# Altium integrated library Altium_WR-MM (rev22a).IntLib: 120 symbols (part 2 of 3)
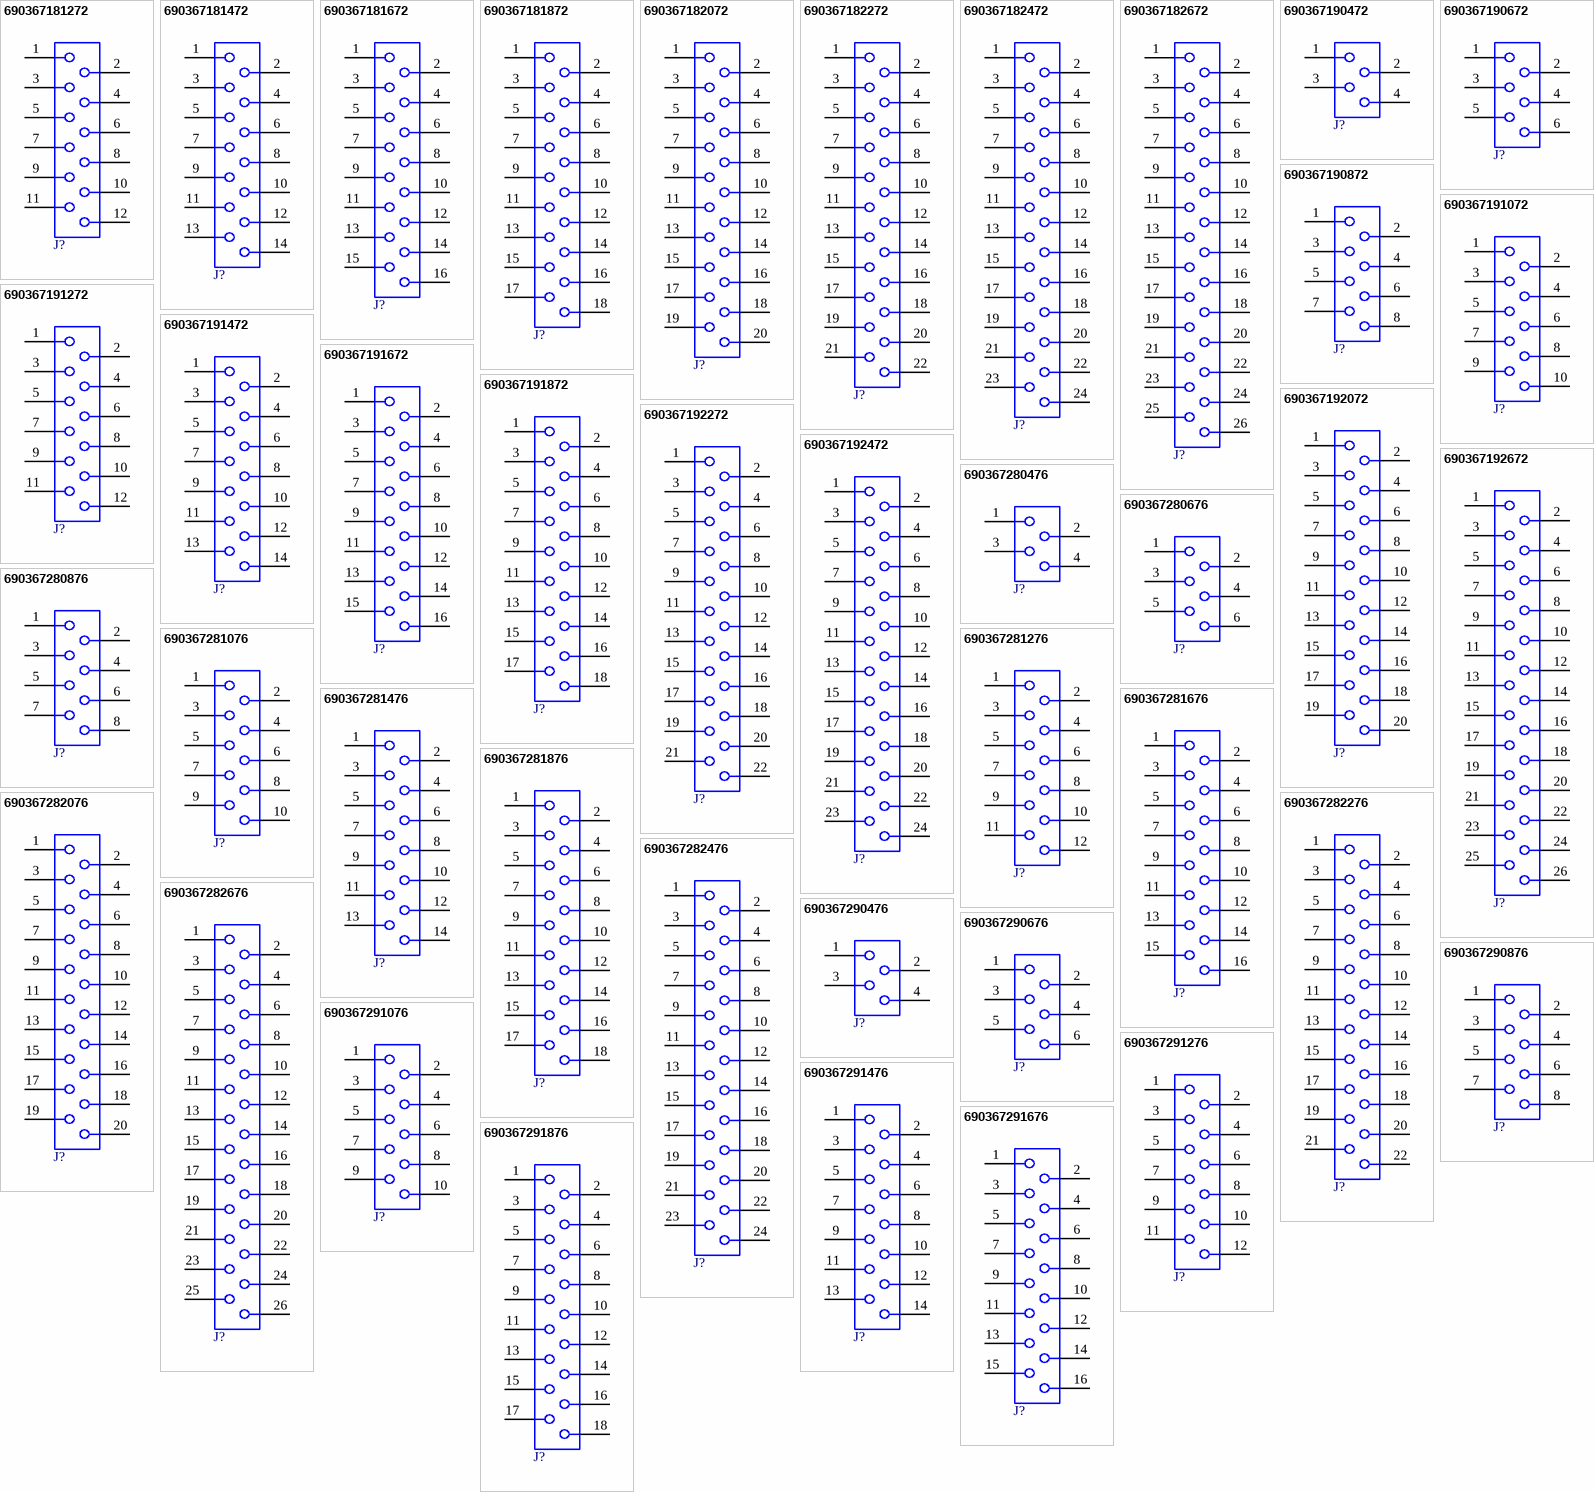
[diagram p4: symbols 690367181272 to 690367291876]

## 690367191472
designator J?  (value not drawn)
WR-MM Mini Module Connector, Female, THT, with Latch, without Polarization, Straight, pitch 2.54mm,; Manufacturer: Wurth Elektronik; Contact Resistance: 10mΩ; Insulation Resistance: 1000MΩ; Rated Current: 1.5A; Working Voltage: 250VAC; Withstanding Voltage: 500VAC; ComponentLink1Description: Website Link; ComponentLink1URL: https://www.we-online.com/redexpert/article/690367191472?ad; ComponentLink2Description: Datasheet Link; ComponentLink2URL: https://www.we-online.com/redexpert/spec/690367191472?ad; Manufacturer Part Number: 690367191472; Category: Board-to-Board Connectors; Match Code: WR-MM; Mount: Through Hole; Operating Temperature Max: 105°C; Operating Temperature Min: -40°C; Packaging: Tube; Length: 22.38mm; Gender: Female; Number of Pins: 14; Orientation: Straight; Pitch: 2.54mm
footprint 690367191472
pins: 1, 2, 3, 4, 5, 6, 7, 8, 9, 10, 11, 12, 13, 14

## 690367191672
designator J?  (value not drawn)
WR-MM Mini Module Connector, Female, THT, with Latch, without Polarization, Straight, pitch 2.54mm,; Manufacturer: Wurth Elektronik; Contact Resistance: 10mΩ; Insulation Resistance: 1000MΩ; Rated Current: 1.5A; Working Voltage: 250VAC; Withstanding Voltage: 500VAC; ComponentLink1Description: Website Link; ComponentLink1URL: https://www.we-online.com/redexpert/article/690367191672?ad; ComponentLink2Description: Datasheet Link; ComponentLink2URL: https://www.we-online.com/redexpert/spec/690367191672?ad; Manufacturer Part Number: 690367191672; Category: Board-to-Board Connectors; Match Code: WR-MM; Mount: Through Hole; Operating Temperature Max: 105°C; Operating Temperature Min: -40°C; Packaging: Tube; Length: 24.92mm; Gender: Female; Number of Pins: 16; Orientation: Straight; Pitch: 2.54mm
footprint 690367191672
pins: 1, 2, 3, 4, 5, 6, 7, 8, 9, 10, 11, 12, 13, 14, 15, 16

## 690367191872
designator J?  (value not drawn)
WR-MM Mini Module Connector, Female, THT, with Latch, without Polarization, Straight, pitch 2.54mm,; Manufacturer: Wurth Elektronik; Contact Resistance: 10mΩ; Insulation Resistance: 1000MΩ; Rated Current: 1.5A; Working Voltage: 250VAC; Withstanding Voltage: 500VAC; ComponentLink1Description: Website Link; ComponentLink1URL: https://www.we-online.com/redexpert/article/690367191872?ad; ComponentLink2Description: Datasheet Link; ComponentLink2URL: https://www.we-online.com/redexpert/spec/690367191872?ad; Manufacturer Part Number: 690367191872; Category: Board-to-Board Connectors; Match Code: WR-MM; Mount: Through Hole; Operating Temperature Max: 105°C; Operating Temperature Min: -40°C; Packaging: Tube; Length: 27.46mm; Gender: Female; Number of Pins: 18; Orientation: Straight; Pitch: 2.54mm
footprint 690367191872
pins: 1, 2, 3, 4, 5, 6, 7, 8, 9, 10, 11, 12, 13, 14, 15, 16, 17, 18

## 690367192072
designator J?  (value not drawn)
WR-MM Mini Module Connector, Female, THT, with Latch, without Polarization, Straight, pitch 2.54mm,; Manufacturer: Wurth Elektronik; Contact Resistance: 10mΩ; Insulation Resistance: 1000MΩ; Rated Current: 1.5A; Working Voltage: 250VAC; Withstanding Voltage: 500VAC; ComponentLink1Description: Website Link; ComponentLink1URL: https://www.we-online.com/redexpert/article/690367192072?ad; ComponentLink2Description: Datasheet Link; ComponentLink2URL: https://www.we-online.com/redexpert/spec/690367192072?ad; Manufacturer Part Number: 690367192072; Category: Board-to-Board Connectors; Match Code: WR-MM; Mount: Through Hole; Operating Temperature Max: 105°C; Operating Temperature Min: -40°C; Packaging: Tube; Length: 30mm; Gender: Female; Number of Pins: 20; Orientation: Straight; Pitch: 2.54mm
footprint 690367192072
pins: 1, 2, 3, 4, 5, 6, 7, 8, 9, 10, 11, 12, 13, 14, 15, 16, 17, 18, 19, 20

## 690367192272
designator J?  (value not drawn)
WR-MM Mini Module Connector, Female, THT, with Latch, without Polarization, Straight, pitch 2.54mm,; Manufacturer: Wurth Elektronik; Contact Resistance: 10mΩ; Insulation Resistance: 1000MΩ; Rated Current: 1.5A; Working Voltage: 250VAC; Withstanding Voltage: 500VAC; ComponentLink1Description: Website Link; ComponentLink1URL: https://www.we-online.com/redexpert/article/690367192272?ad; ComponentLink2Description: Datasheet Link; ComponentLink2URL: https://www.we-online.com/redexpert/spec/690367192272?ad; Manufacturer Part Number: 690367192272; Category: Board-to-Board Connectors; Match Code: WR-MM; Mount: Through Hole; Operating Temperature Max: 105°C; Operating Temperature Min: -40°C; Packaging: Tube; Length: 32.54mm; Gender: Female; Number of Pins: 22; Orientation: Straight; Pitch: 2.54mm
footprint 690367192272
pins: 1, 2, 3, 4, 5, 6, 7, 8, 9, 10, 11, 12, 13, 14, 15, 16, 17, 18, 19, 20, 21, 22

## 690367192472
designator J?  (value not drawn)
WR-MM Mini Module Connector, Female, THT, with Latch, without Polarization, Straight, pitch 2.54mm,; Manufacturer: Wurth Elektronik; Contact Resistance: 10mΩ; Insulation Resistance: 1000MΩ; Rated Current: 1.5A; Working Voltage: 250VAC; Withstanding Voltage: 500VAC; ComponentLink1Description: Website Link; ComponentLink1URL: https://www.we-online.com/redexpert/article/690367192472?ad; ComponentLink2Description: Datasheet Link; ComponentLink2URL: https://www.we-online.com/redexpert/spec/690367192472?ad; Manufacturer Part Number: 690367192472; Category: Board-to-Board Connectors; Match Code: WR-MM; Mount: Through Hole; Operating Temperature Max: 105°C; Operating Temperature Min: -40°C; Packaging: Tube; Length: 35.08mm; Gender: Female; Number of Pins: 24; Orientation: Straight; Pitch: 2.54mm
footprint 690367192472
pins: 1, 2, 3, 4, 5, 6, 7, 8, 9, 10, 11, 12, 13, 14, 15, 16, 17, 18, 19, 20, 21, 22, 23, 24

## 690367192672
designator J?  (value not drawn)
WR-MM Mini Module Connector, Female, THT, with Latch, without Polarization, Straight, pitch 2.54mm,; Manufacturer: Wurth Elektronik; Contact Resistance: 10mΩ; Insulation Resistance: 1000MΩ; Rated Current: 1.5A; Working Voltage: 250VAC; Withstanding Voltage: 500VAC; ComponentLink1Description: Website Link; ComponentLink1URL: https://www.we-online.com/redexpert/article/690367192672?ad; ComponentLink2Description: Datasheet Link; ComponentLink2URL: https://www.we-online.com/redexpert/spec/690367192672?ad; Manufacturer Part Number: 690367192672; Category: Board-to-Board Connectors; Match Code: WR-MM; Mount: Through Hole; Operating Temperature Max: 105°C; Operating Temperature Min: -40°C; Packaging: Tube; Length: 37.62mm; Gender: Female; Number of Pins: 26; Orientation: Straight; Pitch: 2.54mm
footprint 690367192672
pins: 1, 2, 3, 4, 5, 6, 7, 8, 9, 10, 11, 12, 13, 14, 15, 16, 17, 18, 19, 20, 21, 22, 23, 24, 25, 26

## 690367280476
designator J?  (value not drawn)
WR-MM Mini Module Connector, Female, SMT, with Polarization, Straight, pitch 2.54mm, 4p; Manufacturer: Wurth Elektronik; Contact Resistance: 10mΩ; Insulation Resistance: 1000MΩ; Rated Current: 1.5A; Working Voltage: 250VAC; Withstanding Voltage: 500VAC; ComponentLink1Description: Website Link; ComponentLink1URL: https://www.we-online.com/redexpert/article/690367280476?ad; ComponentLink2Description: Datasheet Link; ComponentLink2URL: https://www.we-online.com/redexpert/spec/690367280476?ad; Manufacturer Part Number: 690367280476; Category: Board-to-Board Connectors; Match Code: WR-MM; Mount: Surface Mount; Operating Temperature Max: 105°C; Operating Temperature Min: -40°C; Packaging: Tape and Reel; Length: 7.08mm; Gender: Female; Number of Pins: 4; Orientation: Straight; Pitch: 2.54mm
footprint 690367280476
pins: 1, 2, 3, 4

## 690367280676
designator J?  (value not drawn)
WR-MM Mini Module Connector, Female, SMT, with Polarization, Straight, pitch 2.54mm, 6p; Manufacturer: Wurth Elektronik; Contact Resistance: 10mΩ; Insulation Resistance: 1000MΩ; Rated Current: 1.5A; Working Voltage: 250VAC; Withstanding Voltage: 500VAC; ComponentLink1Description: Website Link; ComponentLink1URL: https://www.we-online.com/redexpert/article/690367280676?ad; ComponentLink2Description: Datasheet Link; ComponentLink2URL: https://www.we-online.com/redexpert/spec/690367280676?ad; Manufacturer Part Number: 690367280676; Category: Board-to-Board Connectors; Match Code: WR-MM; Mount: Surface Mount; Operating Temperature Max: 105°C; Operating Temperature Min: -40°C; Packaging: Tape and Reel; Length: 9.62mm; Gender: Female; Number of Pins: 6; Orientation: Straight; Pitch: 2.54mm
footprint 690367280676
pins: 1, 2, 3, 4, 5, 6

## 690367280876
designator J?  (value not drawn)
WR-MM Mini Module Connector, Female, SMT, with Polarization, Straight, pitch 2.54mm, 8p; Manufacturer: Wurth Elektronik; Contact Resistance: 10mΩ; Insulation Resistance: 1000MΩ; Rated Current: 1.5A; Working Voltage: 250VAC; Withstanding Voltage: 500VAC; ComponentLink1Description: Website Link; ComponentLink1URL: https://www.we-online.com/redexpert/article/690367280876?ad; ComponentLink2Description: Datasheet Link; ComponentLink2URL: https://www.we-online.com/redexpert/spec/690367280876?ad; Manufacturer Part Number: 690367280876; Category: Board-to-Board Connectors; Match Code: WR-MM; Mount: Surface Mount; Operating Temperature Max: 105°C; Operating Temperature Min: -40°C; Packaging: Tape and Reel; Length: 12.16mm; Gender: Female; Number of Pins: 8; Orientation: Straight; Pitch: 2.54mm
footprint 690367280876
pins: 1, 2, 3, 4, 5, 6, 7, 8

## 690367281076
designator J?  (value not drawn)
WR-MM Mini Module Connector, Female, SMT, with Polarization, Straight, pitch 2.54mm, 10p; Manufacturer: Wurth Elektronik; Contact Resistance: 10mΩ; Insulation Resistance: 1000MΩ; Rated Current: 1.5A; Working Voltage: 250VAC; Withstanding Voltage: 500VAC; ComponentLink1Description: Website Link; ComponentLink1URL: https://www.we-online.com/redexpert/article/690367281076?ad; ComponentLink2Description: Datasheet Link; ComponentLink2URL: https://www.we-online.com/redexpert/spec/690367281076?ad; Manufacturer Part Number: 690367281076; Category: Board-to-Board Connectors; Match Code: WR-MM; Mount: Surface Mount; Operating Temperature Max: 105°C; Operating Temperature Min: -40°C; Packaging: Tape and Reel; Length: 14.7mm; Gender: Female; Number of Pins: 10; Orientation: Straight; Pitch: 2.54mm
footprint 690367281076
pins: 1, 2, 3, 4, 5, 6, 7, 8, 9, 10

## 690367281276
designator J?  (value not drawn)
WR-MM Mini Module Connector, Female, SMT, with Polarization, Straight, pitch 2.54mm, 12p; Manufacturer: Wurth Elektronik; Contact Resistance: 10mΩ; Insulation Resistance: 1000MΩ; Rated Current: 1.5A; Working Voltage: 250VAC; Withstanding Voltage: 500VAC; ComponentLink1Description: Website Link; ComponentLink1URL: https://www.we-online.com/redexpert/article/690367281276?ad; ComponentLink2Description: Datasheet Link; ComponentLink2URL: https://www.we-online.com/redexpert/spec/690367281276?ad; Manufacturer Part Number: 690367281276; Category: Board-to-Board Connectors; Match Code: WR-MM; Mount: Surface Mount; Operating Temperature Max: 105°C; Operating Temperature Min: -40°C; Packaging: Tape and Reel; Length: 17.24mm; Gender: Female; Number of Pins: 12; Orientation: Straight; Pitch: 2.54mm
footprint 690367281276
pins: 1, 2, 3, 4, 5, 6, 7, 8, 9, 10, 11, 12

## 690367281476
designator J?  (value not drawn)
WR-MM Mini Module Connector, Female, SMT, with Polarization, Straight, pitch 2.54mm, 14p; Manufacturer: Wurth Elektronik; Contact Resistance: 10mΩ; Insulation Resistance: 1000MΩ; Rated Current: 1.5A; Working Voltage: 250VAC; Withstanding Voltage: 500VAC; ComponentLink1Description: Website Link; ComponentLink1URL: https://www.we-online.com/redexpert/article/690367281476?ad; ComponentLink2Description: Datasheet Link; ComponentLink2URL: https://www.we-online.com/redexpert/spec/690367281476?ad; Manufacturer Part Number: 690367281476; Category: Board-to-Board Connectors; Match Code: WR-MM; Mount: Surface Mount; Operating Temperature Max: 105°C; Operating Temperature Min: -40°C; Packaging: Tape and Reel; Length: 19.78mm; Gender: Female; Number of Pins: 14; Orientation: Straight; Pitch: 2.54mm
footprint 690367281476
pins: 1, 2, 3, 4, 5, 6, 7, 8, 9, 10, 11, 12, 13, 14

## 690367281676
designator J?  (value not drawn)
WR-MM Mini Module Connector, Female, SMT, with Polarization, Straight, pitch 2.54mm, 16p; Manufacturer: Wurth Elektronik; Contact Resistance: 10mΩ; Insulation Resistance: 1000MΩ; Rated Current: 1.5A; Working Voltage: 250VAC; Withstanding Voltage: 500VAC; ComponentLink1Description: Website Link; ComponentLink1URL: https://www.we-online.com/redexpert/article/690367281676?ad; ComponentLink2Description: Datasheet Link; ComponentLink2URL: https://www.we-online.com/redexpert/spec/690367281676?ad; Manufacturer Part Number: 690367281676; Category: Board-to-Board Connectors; Match Code: WR-MM; Mount: Surface Mount; Operating Temperature Max: 105°C; Operating Temperature Min: -40°C; Packaging: Tape and Reel; Length: 22.32mm; Gender: Female; Number of Pins: 16; Orientation: Straight; Pitch: 2.54mm
footprint 690367281676
pins: 1, 2, 3, 4, 5, 6, 7, 8, 9, 10, 11, 12, 13, 14, 15, 16

## 690367281876
designator J?  (value not drawn)
WR-MM Mini Module Connector, Female, SMT, with Polarization, Straight, pitch 2.54mm, 18p; Manufacturer: Wurth Elektronik; Contact Resistance: 10mΩ; Insulation Resistance: 1000MΩ; Rated Current: 1.5A; Working Voltage: 250VAC; Withstanding Voltage: 500VAC; ComponentLink1Description: Website Link; ComponentLink1URL: https://www.we-online.com/redexpert/article/690367281876?ad; ComponentLink2Description: Datasheet Link; ComponentLink2URL: https://www.we-online.com/redexpert/spec/690367281876?ad; Manufacturer Part Number: 690367281876; Category: Board-to-Board Connectors; Match Code: WR-MM; Mount: Surface Mount; Operating Temperature Max: 105°C; Operating Temperature Min: -40°C; Packaging: Tape and Reel; Length: 24.86mm; Gender: Female; Number of Pins: 18; Orientation: Straight; Pitch: 2.54mm
footprint 690367281876
pins: 1, 2, 3, 4, 5, 6, 7, 8, 9, 10, 11, 12, 13, 14, 15, 16, 17, 18

## 690367282076
designator J?  (value not drawn)
WR-MM Mini Module Connector, Female, SMT, with Polarization, Straight, pitch 2.54mm, 20p; Manufacturer: Wurth Elektronik; Contact Resistance: 10mΩ; Insulation Resistance: 1000MΩ; Rated Current: 1.5A; Working Voltage: 250VAC; Withstanding Voltage: 500VAC; ComponentLink1Description: Website Link; ComponentLink1URL: https://www.we-online.com/redexpert/article/690367282076?ad; ComponentLink2Description: Datasheet Link; ComponentLink2URL: https://www.we-online.com/redexpert/spec/690367282076?ad; Manufacturer Part Number: 690367282076; Category: Board-to-Board Connectors; Match Code: WR-MM; Mount: Surface Mount; Operating Temperature Max: 105°C; Operating Temperature Min: -40°C; Packaging: Tape and Reel; Length: 27.4mm; Gender: Female; Number of Pins: 20; Orientation: Straight; Pitch: 2.54mm
footprint 690367282076
pins: 1, 2, 3, 4, 5, 6, 7, 8, 9, 10, 11, 12, 13, 14, 15, 16, 17, 18, 19, 20

## 690367282276
designator J?  (value not drawn)
WR-MM Mini Module Connector, Female, SMT, with Polarization, Straight, pitch 2.54mm, 22p; Manufacturer: Wurth Elektronik; Contact Resistance: 10mΩ; Insulation Resistance: 1000MΩ; Rated Current: 1.5A; Working Voltage: 250VAC; Withstanding Voltage: 500VAC; ComponentLink1Description: Website Link; ComponentLink1URL: https://www.we-online.com/redexpert/article/690367282276?ad; ComponentLink2Description: Datasheet Link; ComponentLink2URL: https://www.we-online.com/redexpert/spec/690367282276?ad; Manufacturer Part Number: 690367282276; Category: Board-to-Board Connectors; Match Code: WR-MM; Mount: Surface Mount; Operating Temperature Max: 105°C; Operating Temperature Min: -40°C; Packaging: Tape and Reel; Length: 29.94mm; Gender: Female; Number of Pins: 22; Orientation: Straight; Pitch: 2.54mm
footprint 690367282276
pins: 1, 2, 3, 4, 5, 6, 7, 8, 9, 10, 11, 12, 13, 14, 15, 16, 17, 18, 19, 20, 21, 22

## 690367282476
designator J?  (value not drawn)
WR-MM Mini Module Connector, Female, SMT, with Polarization, Straight, pitch 2.54mm, 24p; Manufacturer: Wurth Elektronik; Contact Resistance: 10mΩ; Insulation Resistance: 1000MΩ; Rated Current: 1.5A; Working Voltage: 250VAC; Withstanding Voltage: 500VAC; ComponentLink1Description: Website Link; ComponentLink1URL: https://www.we-online.com/redexpert/article/690367282476?ad; ComponentLink2Description: Datasheet Link; ComponentLink2URL: https://www.we-online.com/redexpert/spec/690367282476?ad; Manufacturer Part Number: 690367282476; Category: Board-to-Board Connectors; Match Code: WR-MM; Mount: Surface Mount; Operating Temperature Max: 105°C; Operating Temperature Min: -40°C; Packaging: Tape and Reel; Length: 32.48mm; Gender: Female; Number of Pins: 24; Orientation: Straight; Pitch: 2.54mm
footprint 690367282476
pins: 1, 2, 3, 4, 5, 6, 7, 8, 9, 10, 11, 12, 13, 14, 15, 16, 17, 18, 19, 20, 21, 22, 23, 24

## 690367282676
designator J?  (value not drawn)
WR-MM Mini Module Connector, Female, SMT, with Polarization, Straight, pitch 2.54mm, 26p; Manufacturer: Wurth Elektronik; Contact Resistance: 10mΩ; Insulation Resistance: 1000MΩ; Rated Current: 1.5A; Working Voltage: 250VAC; Withstanding Voltage: 500VAC; ComponentLink1Description: Website Link; ComponentLink1URL: https://www.we-online.com/redexpert/article/690367282676?ad; ComponentLink2Description: Datasheet Link; ComponentLink2URL: https://www.we-online.com/redexpert/spec/690367282676?ad; Manufacturer Part Number: 690367282676; Category: Board-to-Board Connectors; Match Code: WR-MM; Mount: Surface Mount; Operating Temperature Max: 105°C; Operating Temperature Min: -40°C; Packaging: Tape and Reel; Length: 35.02mm; Gender: Female; Number of Pins: 26; Orientation: Straight; Pitch: 2.54mm
footprint 690367282676
pins: 1, 2, 3, 4, 5, 6, 7, 8, 9, 10, 11, 12, 13, 14, 15, 16, 17, 18, 19, 20, 21, 22, 23, 24, 25, 26

## 690367290476
designator J?  (value not drawn)
WR-MM Mini Module Connector, Female, SMT, with Latch & Polarization, Straight, pitch 2.54mm, 4p; Manufacturer: Wurth Elektronik; Contact Resistance: 10mΩ; Insulation Resistance: 1000MΩ; Rated Current: 1.5A; Working Voltage: 250VAC; Withstanding Voltage: 500VAC; ComponentLink1Description: Website Link; ComponentLink1URL: https://www.we-online.com/redexpert/article/690367290476?ad; ComponentLink2Description: Datasheet Link; ComponentLink2URL: https://www.we-online.com/redexpert/spec/690367290476?ad; Manufacturer Part Number: 690367290476; Category: Board-to-Board Connectors; Match Code: WR-MM; Mount: Surface Mount; Operating Temperature Max: 105°C; Operating Temperature Min: -40°C; Packaging: Tape and Reel; Length: 9.68mm; Gender: Female; Number of Pins: 4; Orientation: Straight; Pitch: 2.54mm
footprint 690367290476
pins: 1, 2, 3, 4

## 690367290676
designator J?  (value not drawn)
WR-MM Mini Module Connector, Female, SMT, with Latch & Polarization, Straight, pitch 2.54mm, 6p; Manufacturer: Wurth Elektronik; Contact Resistance: 10mΩ; Insulation Resistance: 1000MΩ; Rated Current: 1.5A; Working Voltage: 250VAC; Withstanding Voltage: 500VAC; ComponentLink1Description: Website Link; ComponentLink1URL: https://www.we-online.com/redexpert/article/690367290676?ad; ComponentLink2Description: Datasheet Link; ComponentLink2URL: https://www.we-online.com/redexpert/spec/690367290676?ad; Manufacturer Part Number: 690367290676; Category: Board-to-Board Connectors; Match Code: WR-MM; Mount: Surface Mount; Operating Temperature Max: 105°C; Operating Temperature Min: -40°C; Packaging: Tape and Reel; Length: 12.22mm; Gender: Female; Number of Pins: 6; Orientation: Straight; Pitch: 2.54mm
footprint 690367290676
pins: 1, 2, 3, 4, 5, 6

## 690367290876
designator J?  (value not drawn)
WR-MM Mini Module Connector, Female, SMT, with Latch & Polarization, Straight, pitch 2.54mm, 8p; Manufacturer: Wurth Elektronik; Contact Resistance: 10mΩ; Insulation Resistance: 1000MΩ; Rated Current: 1.5A; Working Voltage: 250VAC; Withstanding Voltage: 500VAC; ComponentLink1Description: Website Link; ComponentLink1URL: https://www.we-online.com/redexpert/article/690367290876?ad; ComponentLink2Description: Datasheet Link; ComponentLink2URL: https://www.we-online.com/redexpert/spec/690367290876?ad; Manufacturer Part Number: 690367290876; Category: Board-to-Board Connectors; Match Code: WR-MM; Mount: Surface Mount; Operating Temperature Max: 105°C; Operating Temperature Min: -40°C; Packaging: Tape and Reel; Length: 14.76mm; Gender: Female; Number of Pins: 8; Orientation: Straight; Pitch: 2.54mm
footprint 690367290876
pins: 1, 2, 3, 4, 5, 6, 7, 8

## 690367291076
designator J?  (value not drawn)
WR-MM Mini Module Connector, Female, SMT, with Latch & Polarization, Straight, pitch 2.54mm, 10p; Manufacturer: Wurth Elektronik; Contact Resistance: 10mΩ; Insulation Resistance: 1000MΩ; Rated Current: 1.5A; Working Voltage: 250VAC; Withstanding Voltage: 500VAC; ComponentLink1Description: Website Link; ComponentLink1URL: https://www.we-online.com/redexpert/article/690367291076?ad; ComponentLink2Description: Datasheet Link; ComponentLink2URL: https://www.we-online.com/redexpert/spec/690367291076?ad; Manufacturer Part Number: 690367291076; Category: Board-to-Board Connectors; Match Code: WR-MM; Mount: Surface Mount; Operating Temperature Max: 105°C; Operating Temperature Min: -40°C; Packaging: Tape and Reel; Length: 17.3mm; Gender: Female; Number of Pins: 10; Orientation: Straight; Pitch: 2.54mm
footprint 690367291076
pins: 1, 2, 3, 4, 5, 6, 7, 8, 9, 10

## 690367291276
designator J?  (value not drawn)
WR-MM Mini Module Connector, Female, SMT, with Latch & Polarization, Straight, pitch 2.54mm, 12p; Manufacturer: Wurth Elektronik; Contact Resistance: 10mΩ; Insulation Resistance: 1000MΩ; Rated Current: 1.5A; Working Voltage: 250VAC; Withstanding Voltage: 500VAC; ComponentLink1Description: Website Link; ComponentLink1URL: https://www.we-online.com/redexpert/article/690367291276?ad; ComponentLink2Description: Datasheet Link; ComponentLink2URL: https://www.we-online.com/redexpert/spec/690367291276?ad; Manufacturer Part Number: 690367291276; Category: Board-to-Board Connectors; Match Code: WR-MM; Mount: Surface Mount; Operating Temperature Max: 105°C; Operating Temperature Min: -40°C; Packaging: Tape and Reel; Length: 19.84mm; Gender: Female; Number of Pins: 12; Orientation: Straight; Pitch: 2.54mm
footprint 690367291276
pins: 1, 2, 3, 4, 5, 6, 7, 8, 9, 10, 11, 12

## 690367291476
designator J?  (value not drawn)
WR-MM Mini Module Connector, Female, SMT, with Latch & Polarization, Straight, pitch 2.54mm, 14p; Manufacturer: Wurth Elektronik; Contact Resistance: 10mΩ; Insulation Resistance: 1000MΩ; Rated Current: 1.5A; Working Voltage: 250VAC; Withstanding Voltage: 500VAC; ComponentLink1Description: Website Link; ComponentLink1URL: https://www.we-online.com/redexpert/article/690367291476?ad; ComponentLink2Description: Datasheet Link; ComponentLink2URL: https://www.we-online.com/redexpert/spec/690367291476?ad; Manufacturer Part Number: 690367291476; Category: Board-to-Board Connectors; Match Code: WR-MM; Mount: Surface Mount; Operating Temperature Max: 105°C; Operating Temperature Min: -40°C; Packaging: Tape and Reel; Length: 22.38mm; Gender: Female; Number of Pins: 14; Orientation: Straight; Pitch: 2.54mm
footprint 690367291476
pins: 1, 2, 3, 4, 5, 6, 7, 8, 9, 10, 11, 12, 13, 14

## 690367291676
designator J?  (value not drawn)
WR-MM Mini Module Connector, Female, SMT, with Latch & Polarization, Straight, pitch 2.54mm, 16p; Manufacturer: Wurth Elektronik; Contact Resistance: 10mΩ; Insulation Resistance: 1000MΩ; Rated Current: 1.5A; Working Voltage: 250VAC; Withstanding Voltage: 500VAC; ComponentLink1Description: Website Link; ComponentLink1URL: https://www.we-online.com/redexpert/article/690367291676?ad; ComponentLink2Description: Datasheet Link; ComponentLink2URL: https://www.we-online.com/redexpert/spec/690367291676?ad; Manufacturer Part Number: 690367291676; Category: Board-to-Board Connectors; Match Code: WR-MM; Mount: Surface Mount; Operating Temperature Max: 105°C; Operating Temperature Min: -40°C; Packaging: Tape and Reel; Length: 24.92mm; Gender: Female; Number of Pins: 16; Orientation: Straight; Pitch: 2.54mm
footprint 690367291676
pins: 1, 2, 3, 4, 5, 6, 7, 8, 9, 10, 11, 12, 13, 14, 15, 16

## 690367291876
designator J?  (value not drawn)
WR-MM Mini Module Connector, Female, SMT, with Latch & Polarization, Straight, pitch 2.54mm, 18p; Manufacturer: Wurth Elektronik; Contact Resistance: 10mΩ; Insulation Resistance: 1000MΩ; Rated Current: 1.5A; Working Voltage: 250VAC; Withstanding Voltage: 500VAC; ComponentLink1Description: Website Link; ComponentLink1URL: https://www.we-online.com/redexpert/article/690367291876?ad; ComponentLink2Description: Datasheet Link; ComponentLink2URL: https://www.we-online.com/redexpert/spec/690367291876?ad; Manufacturer Part Number: 690367291876; Category: Board-to-Board Connectors; Match Code: WR-MM; Mount: Surface Mount; Operating Temperature Max: 105°C; Operating Temperature Min: -40°C; Packaging: Tape and Reel; Length: 27.46mm; Gender: Female; Number of Pins: 18; Orientation: Straight; Pitch: 2.54mm
footprint 690367291876
pins: 1, 2, 3, 4, 5, 6, 7, 8, 9, 10, 11, 12, 13, 14, 15, 16, 17, 18

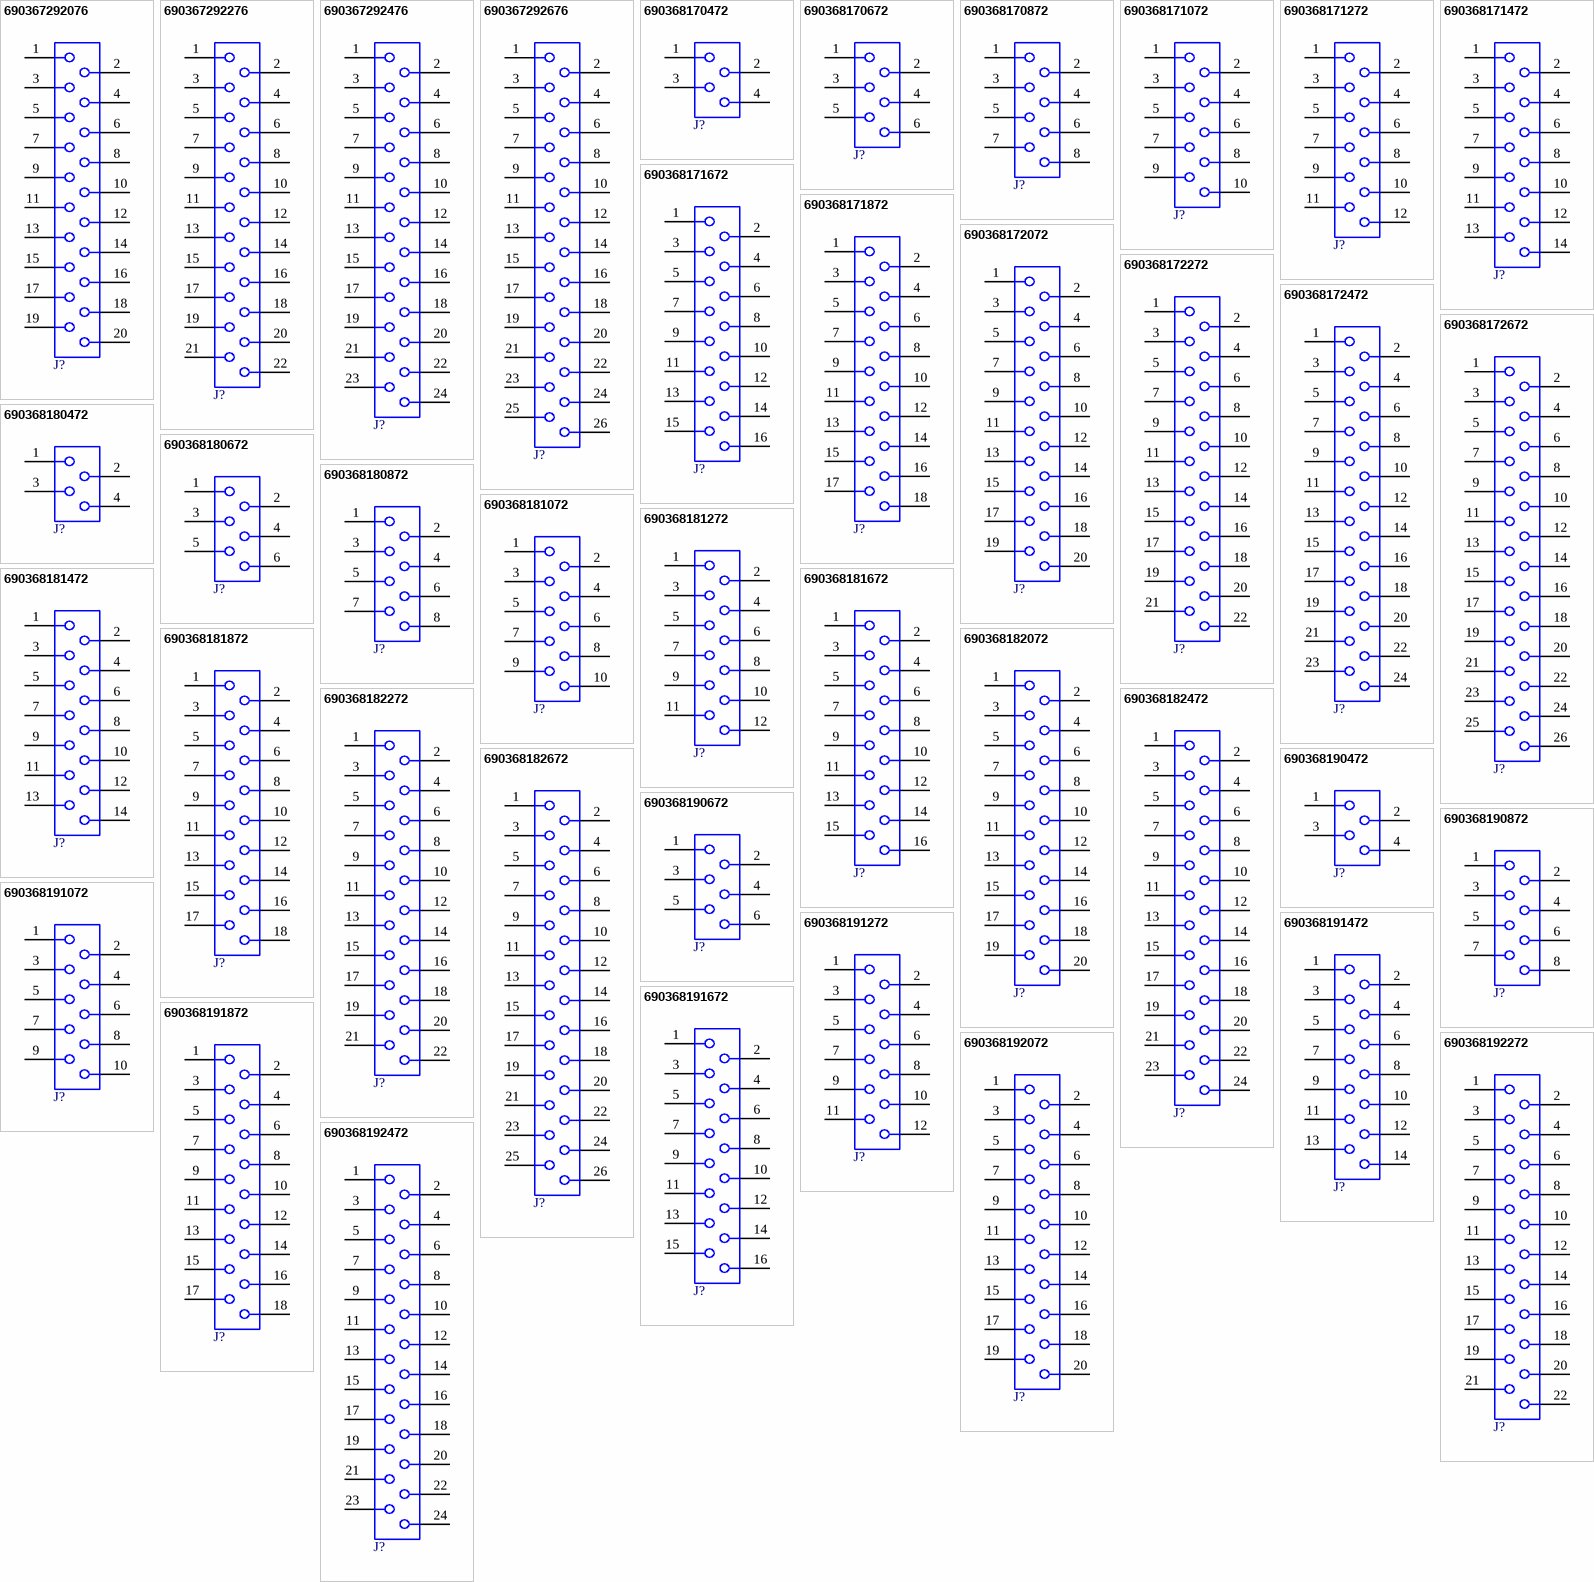
[diagram p2: symbols 690367292076 to 690368192472]

## 690367292076
designator J?  (value not drawn)
WR-MM Mini Module Connector, Female, SMT, with Latch & Polarization, Straight, pitch 2.54mm, 20p; Manufacturer: Wurth Elektronik; Contact Resistance: 10mΩ; Insulation Resistance: 1000MΩ; Rated Current: 1.5A; Working Voltage: 250VAC; Withstanding Voltage: 500VAC; ComponentLink1Description: Website Link; ComponentLink1URL: https://www.we-online.com/redexpert/article/690367292076?ad; ComponentLink2Description: Datasheet Link; ComponentLink2URL: https://www.we-online.com/redexpert/spec/690367292076?ad; Manufacturer Part Number: 690367292076; Category: Board-to-Board Connectors; Match Code: WR-MM; Mount: Surface Mount; Operating Temperature Max: 105°C; Operating Temperature Min: -40°C; Packaging: Tape and Reel; Length: 30mm; Gender: Female; Number of Pins: 20; Orientation: Straight; Pitch: 2.54mm
footprint 690367292076
pins: 1, 2, 3, 4, 5, 6, 7, 8, 9, 10, 11, 12, 13, 14, 15, 16, 17, 18, 19, 20

## 690367292276
designator J?  (value not drawn)
WR-MM Mini Module Connector, Female, SMT, with Latch & Polarization, Straight, pitch 2.54mm, 22p; Manufacturer: Wurth Elektronik; Contact Resistance: 10mΩ; Insulation Resistance: 1000MΩ; Rated Current: 1.5A; Working Voltage: 250VAC; Withstanding Voltage: 500VAC; ComponentLink1Description: Website Link; ComponentLink1URL: https://www.we-online.com/redexpert/article/690367292276?ad; ComponentLink2Description: Datasheet Link; ComponentLink2URL: https://www.we-online.com/redexpert/spec/690367292276?ad; Manufacturer Part Number: 690367292276; Category: Board-to-Board Connectors; Match Code: WR-MM; Mount: Surface Mount; Operating Temperature Max: 105°C; Operating Temperature Min: -40°C; Packaging: Tape and Reel; Length: 32.54mm; Gender: Female; Number of Pins: 22; Orientation: Straight; Pitch: 2.54mm
footprint 690367292276
pins: 1, 2, 3, 4, 5, 6, 7, 8, 9, 10, 11, 12, 13, 14, 15, 16, 17, 18, 19, 20, 21, 22

## 690367292476
designator J?  (value not drawn)
WR-MM Mini Module Connector, Female, SMT, with Latch & Polarization, Straight, pitch 2.54mm, 24p; Manufacturer: Wurth Elektronik; Contact Resistance: 10mΩ; Insulation Resistance: 1000MΩ; Rated Current: 1.5A; Working Voltage: 250VAC; Withstanding Voltage: 500VAC; ComponentLink1Description: Website Link; ComponentLink1URL: https://www.we-online.com/redexpert/article/690367292476?ad; ComponentLink2Description: Datasheet Link; ComponentLink2URL: https://www.we-online.com/redexpert/spec/690367292476?ad; Manufacturer Part Number: 690367292476; Category: Board-to-Board Connectors; Match Code: WR-MM; Mount: Surface Mount; Operating Temperature Max: 105°C; Operating Temperature Min: -40°C; Packaging: Tape and Reel; Length: 35.08mm; Gender: Female; Number of Pins: 24; Orientation: Straight; Pitch: 2.54mm
footprint 690367292476
pins: 1, 2, 3, 4, 5, 6, 7, 8, 9, 10, 11, 12, 13, 14, 15, 16, 17, 18, 19, 20, 21, 22, 23, 24

## 690367292676
designator J?  (value not drawn)
WR-MM Mini Module Connector, Female, SMT, with Latch & Polarization, Straight, pitch 2.54mm, 26p; Manufacturer: Wurth Elektronik; Contact Resistance: 10mΩ; Insulation Resistance: 1000MΩ; Rated Current: 1.5A; Working Voltage: 250VAC; Withstanding Voltage: 500VAC; ComponentLink1Description: Website Link; ComponentLink1URL: https://www.we-online.com/redexpert/article/690367292676?ad; ComponentLink2Description: Datasheet Link; ComponentLink2URL: https://www.we-online.com/redexpert/spec/690367292676?ad; Manufacturer Part Number: 690367292676; Category: Board-to-Board Connectors; Match Code: WR-MM; Mount: Surface Mount; Operating Temperature Max: 105°C; Operating Temperature Min: -40°C; Packaging: Tape and Reel; Length: 37.62mm; Gender: Female; Number of Pins: 26; Orientation: Straight; Pitch: 2.54mm
footprint 690367292676
pins: 1, 2, 3, 4, 5, 6, 7, 8, 9, 10, 11, 12, 13, 14, 15, 16, 17, 18, 19, 20, 21, 22, 23, 24, 25, 26

## 690368170472
designator J?  (value not drawn)
WR-MM Mini Module Connector, Female, THT, without Latch, with Polarization, Angled, pitch 2.54mm, 4p; Manufacturer: Wurth Elektronik; Contact Resistance: 10mΩ; Insulation Resistance: 1000MΩ; Rated Current: 1.5A; Working Voltage: 250VAC; Withstanding Voltage: 500VAC; ComponentLink1Description: Website Link; ComponentLink1URL: https://www.we-online.com/redexpert/article/690368170472?ad; ComponentLink2Description: Datasheet Link; ComponentLink2URL: https://www.we-online.com/redexpert/spec/690368170472?ad; Manufacturer Part Number: 690368170472; Category: Board-to-Board Connectors; Match Code: WR-MM; Mount: Through Hole; Operating Temperature Max: 105°C; Operating Temperature Min: -40°C; Packaging: Tube; Length: 7.08mm; Gender: Female; Number of Pins: 4; Orientation: Angled; Pitch: 2.54mm
footprint 690368170472
pins: 1, 2, 3, 4

## 690368170672
designator J?  (value not drawn)
WR-MM Mini Module Connector, Female, THT, without Latch, with Polarization, Angled, pitch 2.54mm, 6p; Manufacturer: Wurth Elektronik; Contact Resistance: 10mΩ; Insulation Resistance: 1000MΩ; Rated Current: 1.5A; Working Voltage: 250VAC; Withstanding Voltage: 500VAC; ComponentLink1Description: Website Link; ComponentLink1URL: https://www.we-online.com/redexpert/article/690368170672?ad; ComponentLink2Description: Datasheet Link; ComponentLink2URL: https://www.we-online.com/redexpert/spec/690368170672?ad; Manufacturer Part Number: 690368170672; Category: Board-to-Board Connectors; Match Code: WR-MM; Mount: Through Hole; Operating Temperature Max: 105°C; Operating Temperature Min: -40°C; Packaging: Tube; Length: 9.62mm; Gender: Female; Number of Pins: 6; Orientation: Angled; Pitch: 2.54mm
footprint 690368170672
pins: 1, 2, 3, 4, 5, 6

## 690368170872
designator J?  (value not drawn)
WR-MM Mini Module Connector, Female, THT, without Latch, with Polarization, Angled, pitch 2.54mm, 8p; Manufacturer: Wurth Elektronik; Contact Resistance: 10mΩ; Insulation Resistance: 1000MΩ; Rated Current: 1.5A; Working Voltage: 250VAC; Withstanding Voltage: 500VAC; ComponentLink1Description: Website Link; ComponentLink1URL: https://www.we-online.com/redexpert/article/690368170872?ad; ComponentLink2Description: Datasheet Link; ComponentLink2URL: https://www.we-online.com/redexpert/spec/690368170872?ad; Manufacturer Part Number: 690368170872; Category: Board-to-Board Connectors; Match Code: WR-MM; Mount: Through Hole; Operating Temperature Max: 105°C; Operating Temperature Min: -40°C; Packaging: Tube; Length: 12.16mm; Gender: Female; Number of Pins: 8; Orientation: Angled; Pitch: 2.54mm
footprint 690368170872
pins: 1, 2, 3, 4, 5, 6, 7, 8

## 690368171072
designator J?  (value not drawn)
WR-MM Mini Module Connector, Female, THT, without Latch, with Polarization, Angled, pitch 2.54mm, 10; Manufacturer: Wurth Elektronik; Contact Resistance: 10mΩ; Insulation Resistance: 1000MΩ; Rated Current: 1.5A; Working Voltage: 250VAC; Withstanding Voltage: 500VAC; ComponentLink1Description: Website Link; ComponentLink1URL: https://www.we-online.com/redexpert/article/690368171072?ad; ComponentLink2Description: Datasheet Link; ComponentLink2URL: https://www.we-online.com/redexpert/spec/690368171072?ad; Manufacturer Part Number: 690368171072; Category: Board-to-Board Connectors; Match Code: WR-MM; Mount: Through Hole; Operating Temperature Max: 105°C; Operating Temperature Min: -40°C; Packaging: Tube; Length: 14.7mm; Gender: Female; Number of Pins: 10; Orientation: Angled; Pitch: 2.54mm
footprint 690368171072
pins: 1, 2, 3, 4, 5, 6, 7, 8, 9, 10

## 690368171272
designator J?  (value not drawn)
WR-MM Mini Module Connector, Female, THT, without Latch, with Polarization, Angled, pitch 2.54mm, 12; Manufacturer: Wurth Elektronik; Contact Resistance: 10mΩ; Insulation Resistance: 1000MΩ; Rated Current: 1.5A; Working Voltage: 250VAC; Withstanding Voltage: 500VAC; ComponentLink1Description: Website Link; ComponentLink1URL: https://www.we-online.com/redexpert/article/690368171272?ad; ComponentLink2Description: Datasheet Link; ComponentLink2URL: https://www.we-online.com/redexpert/spec/690368171272?ad; Manufacturer Part Number: 690368171272; Category: Board-to-Board Connectors; Match Code: WR-MM; Mount: Through Hole; Operating Temperature Max: 105°C; Operating Temperature Min: -40°C; Packaging: Tube; Length: 17.24mm; Gender: Female; Number of Pins: 12; Orientation: Angled; Pitch: 2.54mm
footprint 690368171272
pins: 1, 2, 3, 4, 5, 6, 7, 8, 9, 10, 11, 12

## 690368171472
designator J?  (value not drawn)
WR-MM Mini Module Connector, Female, THT, without Latch, with Polarization, Angled, pitch 2.54mm, 14; Manufacturer: Wurth Elektronik; Contact Resistance: 10mΩ; Insulation Resistance: 1000MΩ; Rated Current: 1.5A; Working Voltage: 250VAC; Withstanding Voltage: 500VAC; ComponentLink1Description: Website Link; ComponentLink1URL: https://www.we-online.com/redexpert/article/690368171472?ad; ComponentLink2Description: Datasheet Link; ComponentLink2URL: https://www.we-online.com/redexpert/spec/690368171472?ad; Manufacturer Part Number: 690368171472; Category: Board-to-Board Connectors; Match Code: WR-MM; Mount: Through Hole; Operating Temperature Max: 105°C; Operating Temperature Min: -40°C; Packaging: Tube; Length: 19.78mm; Gender: Female; Number of Pins: 14; Orientation: Angled; Pitch: 2.54mm
footprint 690368171472
pins: 1, 2, 3, 4, 5, 6, 7, 8, 9, 10, 11, 12, 13, 14

## 690368171672
designator J?  (value not drawn)
WR-MM Mini Module Connector, Female, THT, without Latch, with Polarization, Angled, pitch 2.54mm, 16; Manufacturer: Wurth Elektronik; Contact Resistance: 10mΩ; Insulation Resistance: 1000MΩ; Rated Current: 1.5A; Working Voltage: 250VAC; Withstanding Voltage: 500VAC; ComponentLink1Description: Website Link; ComponentLink1URL: https://www.we-online.com/redexpert/article/690368171672?ad; ComponentLink2Description: Datasheet Link; ComponentLink2URL: https://www.we-online.com/redexpert/spec/690368171672?ad; Manufacturer Part Number: 690368171672; Category: Board-to-Board Connectors; Match Code: WR-MM; Mount: Through Hole; Operating Temperature Max: 105°C; Operating Temperature Min: -40°C; Packaging: Tube; Length: 22.32mm; Gender: Female; Number of Pins: 16; Orientation: Angled; Pitch: 2.54mm
footprint 690368171672
pins: 1, 2, 3, 4, 5, 6, 7, 8, 9, 10, 11, 12, 13, 14, 15, 16

## 690368171872
designator J?  (value not drawn)
WR-MM Mini Module Connector, Female, THT, without Latch, with Polarization, Angled, pitch 2.54mm, 18; Manufacturer: Wurth Elektronik; Contact Resistance: 10mΩ; Insulation Resistance: 1000MΩ; Rated Current: 1.5A; Working Voltage: 250VAC; Withstanding Voltage: 500VAC; ComponentLink1Description: Website Link; ComponentLink1URL: https://www.we-online.com/redexpert/article/690368171872?ad; ComponentLink2Description: Datasheet Link; ComponentLink2URL: https://www.we-online.com/redexpert/spec/690368171872?ad; Manufacturer Part Number: 690368171872; Category: Board-to-Board Connectors; Match Code: WR-MM; Mount: Through Hole; Operating Temperature Max: 105°C; Operating Temperature Min: -40°C; Packaging: Tube; Length: 24.86mm; Gender: Female; Number of Pins: 18; Orientation: Angled; Pitch: 2.54mm
footprint 690368171872
pins: 1, 2, 3, 4, 5, 6, 7, 8, 9, 10, 11, 12, 13, 14, 15, 16, 17, 18

## 690368172072
designator J?  (value not drawn)
WR-MM Mini Module Connector, Female, THT, without Latch, with Polarization, Angled, pitch 2.54mm, 20; Manufacturer: Wurth Elektronik; Contact Resistance: 10mΩ; Insulation Resistance: 1000MΩ; Rated Current: 1.5A; Working Voltage: 250VAC; Withstanding Voltage: 500VAC; ComponentLink1Description: Website Link; ComponentLink1URL: https://www.we-online.com/redexpert/article/690368172072?ad; ComponentLink2Description: Datasheet Link; ComponentLink2URL: https://www.we-online.com/redexpert/spec/690368172072?ad; Manufacturer Part Number: 690368172072; Category: Board-to-Board Connectors; Match Code: WR-MM; Mount: Through Hole; Operating Temperature Max: 105°C; Operating Temperature Min: -40°C; Packaging: Tube; Length: 27.4mm; Gender: Female; Number of Pins: 20; Orientation: Angled; Pitch: 2.54mm
footprint 690368172072
pins: 1, 2, 3, 4, 5, 6, 7, 8, 9, 10, 11, 12, 13, 14, 15, 16, 17, 18, 19, 20

## 690368172272
designator J?  (value not drawn)
WR-MM Mini Module Connector, Female, THT, without Latch, with Polarization, Angled, pitch 2.54mm, 22; Manufacturer: Wurth Elektronik; Contact Resistance: 10mΩ; Insulation Resistance: 1000MΩ; Rated Current: 1.5A; Working Voltage: 250VAC; Withstanding Voltage: 500VAC; ComponentLink1Description: Website Link; ComponentLink1URL: https://www.we-online.com/redexpert/article/690368172272?ad; ComponentLink2Description: Datasheet Link; ComponentLink2URL: https://www.we-online.com/redexpert/spec/690368172272?ad; Manufacturer Part Number: 690368172272; Category: Board-to-Board Connectors; Match Code: WR-MM; Mount: Through Hole; Operating Temperature Max: 105°C; Operating Temperature Min: -40°C; Packaging: Tube; Length: 29.94mm; Gender: Female; Number of Pins: 22; Orientation: Angled; Pitch: 2.54mm
footprint 690368172272
pins: 1, 2, 3, 4, 5, 6, 7, 8, 9, 10, 11, 12, 13, 14, 15, 16, 17, 18, 19, 20, 21, 22

## 690368172472
designator J?  (value not drawn)
WR-MM Mini Module Connector, Female, THT, without Latch, with Polarization, Angled, pitch 2.54mm, 24; Manufacturer: Wurth Elektronik; Contact Resistance: 10mΩ; Insulation Resistance: 1000MΩ; Rated Current: 1.5A; Working Voltage: 250VAC; Withstanding Voltage: 500VAC; ComponentLink1Description: Website Link; ComponentLink1URL: https://www.we-online.com/redexpert/article/690368172472?ad; ComponentLink2Description: Datasheet Link; ComponentLink2URL: https://www.we-online.com/redexpert/spec/690368172472?ad; Manufacturer Part Number: 690368172472; Category: Board-to-Board Connectors; Match Code: WR-MM; Mount: Through Hole; Operating Temperature Max: 105°C; Operating Temperature Min: -40°C; Packaging: Tube; Length: 32.48mm; Gender: Female; Number of Pins: 24; Orientation: Angled; Pitch: 2.54mm
footprint 690368172472
pins: 1, 2, 3, 4, 5, 6, 7, 8, 9, 10, 11, 12, 13, 14, 15, 16, 17, 18, 19, 20, 21, 22, 23, 24

## 690368172672
designator J?  (value not drawn)
WR-MM Mini Module Connector, Female, THT, without Latch, with Polarization, Angled, pitch 2.54mm, 26; Manufacturer: Wurth Elektronik; Contact Resistance: 10mΩ; Insulation Resistance: 1000MΩ; Rated Current: 1.5A; Working Voltage: 250VAC; Withstanding Voltage: 500VAC; ComponentLink1Description: Website Link; ComponentLink1URL: https://www.we-online.com/redexpert/article/690368172672?ad; ComponentLink2Description: Datasheet Link; ComponentLink2URL: https://www.we-online.com/redexpert/spec/690368172672?ad; Manufacturer Part Number: 690368172672; Category: Board-to-Board Connectors; Match Code: WR-MM; Mount: Through Hole; Operating Temperature Max: 105°C; Operating Temperature Min: -40°C; Packaging: Tube; Length: 35.02mm; Gender: Female; Number of Pins: 26; Orientation: Angled; Pitch: 2.54mm
footprint 690368172672
pins: 1, 2, 3, 4, 5, 6, 7, 8, 9, 10, 11, 12, 13, 14, 15, 16, 17, 18, 19, 20, 21, 22, 23, 24, 25, 26

## 690368180472
designator J?  (value not drawn)
WR-MM Mini Module Connector, Female, THT, without Latch & Polarization, Angled, pitch 2.54mm, 4p; Manufacturer: Wurth Elektronik; Contact Resistance: 10mΩ; Insulation Resistance: 1000MΩ; Rated Current: 1.5A; Working Voltage: 250VAC; Withstanding Voltage: 500VAC; ComponentLink1Description: Website Link; ComponentLink1URL: https://www.we-online.com/redexpert/article/690368180472?ad; ComponentLink2Description: Datasheet Link; ComponentLink2URL: https://www.we-online.com/redexpert/spec/690368180472?ad; Manufacturer Part Number: 690368180472; Category: Board-to-Board Connectors; Match Code: WR-MM; Mount: Through Hole; Operating Temperature Max: 105°C; Operating Temperature Min: -40°C; Packaging: Tube; Length: 7.08mm; Gender: Female; Number of Pins: 4; Orientation: Angled; Pitch: 2.54mm
footprint 690368180472
pins: 1, 2, 3, 4

## 690368180672
designator J?  (value not drawn)
WR-MM Mini Module Connector, Female, THT, without Latch & Polarization, Angled, pitch 2.54mm, 6p; Manufacturer: Wurth Elektronik; Contact Resistance: 10mΩ; Insulation Resistance: 1000MΩ; Rated Current: 1.5A; Working Voltage: 250VAC; Withstanding Voltage: 500VAC; ComponentLink1Description: Website Link; ComponentLink1URL: https://www.we-online.com/redexpert/article/690368180672?ad; ComponentLink2Description: Datasheet Link; ComponentLink2URL: https://www.we-online.com/redexpert/spec/690368180672?ad; Manufacturer Part Number: 690368180672; Category: Board-to-Board Connectors; Match Code: WR-MM; Mount: Through Hole; Operating Temperature Max: 105°C; Operating Temperature Min: -40°C; Packaging: Tube; Length: 9.62mm; Gender: Female; Number of Pins: 6; Orientation: Angled; Pitch: 2.54mm
footprint 690368180672
pins: 1, 2, 3, 4, 5, 6

## 690368180872
designator J?  (value not drawn)
WR-MM Mini Module Connector, Female, THT, without Latch & Polarization, Angled, pitch 2.54mm, 8p; Manufacturer: Wurth Elektronik; Contact Resistance: 10mΩ; Insulation Resistance: 1000MΩ; Rated Current: 1.5A; Working Voltage: 250VAC; Withstanding Voltage: 500VAC; ComponentLink1Description: Website Link; ComponentLink1URL: https://www.we-online.com/redexpert/article/690368180872?ad; ComponentLink2Description: Datasheet Link; ComponentLink2URL: https://www.we-online.com/redexpert/spec/690368180872?ad; Manufacturer Part Number: 690368180872; Category: Board-to-Board Connectors; Match Code: WR-MM; Mount: Through Hole; Operating Temperature Max: 105°C; Operating Temperature Min: -40°C; Packaging: Tube; Length: 12.16mm; Gender: Female; Number of Pins: 8; Orientation: Angled; Pitch: 2.54mm
footprint 690368180872
pins: 1, 2, 3, 4, 5, 6, 7, 8

## 690368181072
designator J?  (value not drawn)
WR-MM Mini Module Connector, Female, THT, without Latch & Polarization, Angled, pitch 2.54mm, 10p; Manufacturer: Wurth Elektronik; Contact Resistance: 10mΩ; Insulation Resistance: 1000MΩ; Rated Current: 1.5A; Working Voltage: 250VAC; Withstanding Voltage: 500VAC; ComponentLink1Description: Website Link; ComponentLink1URL: https://www.we-online.com/redexpert/article/690368181072?ad; ComponentLink2Description: Datasheet Link; ComponentLink2URL: https://www.we-online.com/redexpert/spec/690368181072?ad; Manufacturer Part Number: 690368181072; Category: Board-to-Board Connectors; Match Code: WR-MM; Mount: Through Hole; Operating Temperature Max: 105°C; Operating Temperature Min: -40°C; Packaging: Tube; Length: 14.7mm; Gender: Female; Number of Pins: 10; Orientation: Angled; Pitch: 2.54mm
footprint 690368181072
pins: 1, 2, 3, 4, 5, 6, 7, 8, 9, 10

## 690368181272
designator J?  (value not drawn)
WR-MM Mini Module Connector, Female, THT, without Latch & Polarization, Angled, pitch 2.54mm, 12p; Manufacturer: Wurth Elektronik; Contact Resistance: 10mΩ; Insulation Resistance: 1000MΩ; Rated Current: 1.5A; Working Voltage: 250VAC; Withstanding Voltage: 500VAC; ComponentLink1Description: Website Link; ComponentLink1URL: https://www.we-online.com/redexpert/article/690368181272?ad; ComponentLink2Description: Datasheet Link; ComponentLink2URL: https://www.we-online.com/redexpert/spec/690368181272?ad; Manufacturer Part Number: 690368181272; Category: Board-to-Board Connectors; Match Code: WR-MM; Mount: Through Hole; Operating Temperature Max: 105°C; Operating Temperature Min: -40°C; Packaging: Tube; Length: 17.24mm; Gender: Female; Number of Pins: 12; Orientation: Angled; Pitch: 2.54mm
footprint 690368181272
pins: 1, 2, 3, 4, 5, 6, 7, 8, 9, 10, 11, 12

## 690368181472
designator J?  (value not drawn)
WR-MM Mini Module Connector, Female, THT, without Latch & Polarization, Angled, pitch 2.54mm, 14p; Manufacturer: Wurth Elektronik; Contact Resistance: 10mΩ; Insulation Resistance: 1000MΩ; Rated Current: 1.5A; Working Voltage: 250VAC; Withstanding Voltage: 500VAC; ComponentLink1Description: Website Link; ComponentLink1URL: https://www.we-online.com/redexpert/article/690368181472?ad; ComponentLink2Description: Datasheet Link; ComponentLink2URL: https://www.we-online.com/redexpert/spec/690368181472?ad; Manufacturer Part Number: 690368181472; Category: Board-to-Board Connectors; Match Code: WR-MM; Mount: Through Hole; Operating Temperature Max: 105°C; Operating Temperature Min: -40°C; Packaging: Tube; Length: 19.78mm; Gender: Female; Number of Pins: 14; Orientation: Angled; Pitch: 2.54mm
footprint 690368181472
pins: 1, 2, 3, 4, 5, 6, 7, 8, 9, 10, 11, 12, 13, 14

## 690368181672
designator J?  (value not drawn)
WR-MM Mini Module Connector, Female, THT, without Latch & Polarization, Angled, pitch 2.54mm, 16p; Manufacturer: Wurth Elektronik; Contact Resistance: 10mΩ; Insulation Resistance: 1000MΩ; Rated Current: 1.5A; Working Voltage: 250VAC; Withstanding Voltage: 500VAC; ComponentLink1Description: Website Link; ComponentLink1URL: https://www.we-online.com/redexpert/article/690368181672?ad; ComponentLink2Description: Datasheet Link; ComponentLink2URL: https://www.we-online.com/redexpert/spec/690368181672?ad; Manufacturer Part Number: 690368181672; Category: Board-to-Board Connectors; Match Code: WR-MM; Mount: Through Hole; Operating Temperature Max: 105°C; Operating Temperature Min: -40°C; Packaging: Tube; Length: 22.32mm; Gender: Female; Number of Pins: 16; Orientation: Angled; Pitch: 2.54mm
footprint 690368181672
pins: 1, 2, 3, 4, 5, 6, 7, 8, 9, 10, 11, 12, 13, 14, 15, 16

## 690368181872
designator J?  (value not drawn)
WR-MM Mini Module Connector, Female, THT, without Latch & Polarization, Angled, pitch 2.54mm, 18p; Manufacturer: Wurth Elektronik; Contact Resistance: 10mΩ; Insulation Resistance: 1000MΩ; Rated Current: 1.5A; Working Voltage: 250VAC; Withstanding Voltage: 500VAC; ComponentLink1Description: Website Link; ComponentLink1URL: https://www.we-online.com/redexpert/article/690368181872?ad; ComponentLink2Description: Datasheet Link; ComponentLink2URL: https://www.we-online.com/redexpert/spec/690368181872?ad; Manufacturer Part Number: 690368181872; Category: Board-to-Board Connectors; Match Code: WR-MM; Mount: Through Hole; Operating Temperature Max: 105°C; Operating Temperature Min: -40°C; Packaging: Tube; Length: 24.86mm; Gender: Female; Number of Pins: 18; Orientation: Angled; Pitch: 2.54mm
footprint 690368181872
pins: 1, 2, 3, 4, 5, 6, 7, 8, 9, 10, 11, 12, 13, 14, 15, 16, 17, 18

## 690368182072
designator J?  (value not drawn)
WR-MM Mini Module Connector, Female, THT, without Latch & Polarization, Angled, pitch 2.54mm, 20p; Manufacturer: Wurth Elektronik; Contact Resistance: 10mΩ; Insulation Resistance: 1000MΩ; Rated Current: 1.5A; Working Voltage: 250VAC; Withstanding Voltage: 500VAC; ComponentLink1Description: Website Link; ComponentLink1URL: https://www.we-online.com/redexpert/article/690368182072?ad; ComponentLink2Description: Datasheet Link; ComponentLink2URL: https://www.we-online.com/redexpert/spec/690368182072?ad; Manufacturer Part Number: 690368182072; Category: Board-to-Board Connectors; Match Code: WR-MM; Mount: Through Hole; Operating Temperature Max: 105°C; Operating Temperature Min: -40°C; Packaging: Tube; Length: 27.4mm; Gender: Female; Number of Pins: 20; Orientation: Angled; Pitch: 2.54mm
footprint 690368182072
pins: 1, 2, 3, 4, 5, 6, 7, 8, 9, 10, 11, 12, 13, 14, 15, 16, 17, 18, 19, 20

## 690368182272
designator J?  (value not drawn)
WR-MM Mini Module Connector, Female, THT, without Latch & Polarization, Angled, pitch 2.54mm, 22p; Manufacturer: Wurth Elektronik; Contact Resistance: 10mΩ; Insulation Resistance: 1000MΩ; Rated Current: 1.5A; Working Voltage: 250VAC; Withstanding Voltage: 500VAC; ComponentLink1Description: Website Link; ComponentLink1URL: https://www.we-online.com/redexpert/article/690368182272?ad; ComponentLink2Description: Datasheet Link; ComponentLink2URL: https://www.we-online.com/redexpert/spec/690368182272?ad; Manufacturer Part Number: 690368182272; Category: Board-to-Board Connectors; Match Code: WR-MM; Mount: Through Hole; Operating Temperature Max: 105°C; Operating Temperature Min: -40°C; Packaging: Tube; Length: 29.94mm; Gender: Female; Number of Pins: 22; Orientation: Angled; Pitch: 2.54mm
footprint 690368182272
pins: 1, 2, 3, 4, 5, 6, 7, 8, 9, 10, 11, 12, 13, 14, 15, 16, 17, 18, 19, 20, 21, 22